# EAGLE library part OPAMP-DUAL-LM358 (library FlashPCB_ICs)
LMV358 - IC OPAMP GP 2 CIRCUIT 8SOIC Technical Specifications: General Purpose Amplifier 2 Circuit Rail-to-Rail 8-SOIC Follows Industry Standard LM358 Op-Amp Architecture Supply Voltage: 2.7V~5.5V Component Search: LMV358 <https://www.flashpcb.com/components> Datasheet: LMV3xx-N/-Q1 Single/Dual/Quad General Purpose, Low V, Rail-to-Rail Output Op Amp datasheet (Rev. K) <https://www.ti.com/lit/ds/symlink/lmv324-n-q1.pdf?HQS=dis-dk-null-digikeymode-dsf-pf-null-wwe&ts=1683577335183&ref_url=https%253A%252F%252Fwww.ti.com%252Fgeneral%252Fdocs%252Fsuppproductinfo.tsp%253FdistId%253D10%2526gotoUrl%253Dhttps%253A%252F%252Fwww.ti.com%252Flit%252Fgpn%252Flmv324-n-q1>
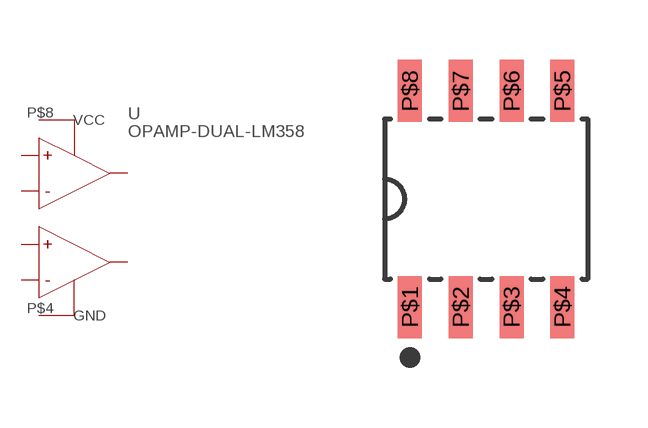
[diagram p67: symbol with the pads of SOIC-8-150MIL-3.9MM; footprint SOIC-8-150MIL-3.9MM]

Designator prefix U

## OPAMP-DUAL-LM358  [SOIC-8-150MIL-3.9MM]
P$1  1OUT
P$2  1IN-
P$3  1IN+
P$4  GND
P$5  2IN+
P$6  2IN-
P$7  2OUT
P$8  VCC

## Footprint SOIC-8-150MIL-3.9MM (pad centres in mm)
smd 0.6 x 1.55: P$1 -1.905,-2.7; P$2 -0.635,-2.7; P$3 0.635,-2.7; P$4 1.905,-2.7; P$5 1.905,2.7; P$6 0.635,2.7; P$7 -0.635,2.7; P$8 -1.905,2.7